# EAGLE library part PTN78020* (library @Club_convertisseurs_CC_CC)
Texas Instruments PTN78020W / PTH78020H Vin : 7V to 36V (W) / 15V to 36V (H) Vout : 2.5V to 12.6V (W) / 11.85V to 22V (H) Imax : 6A
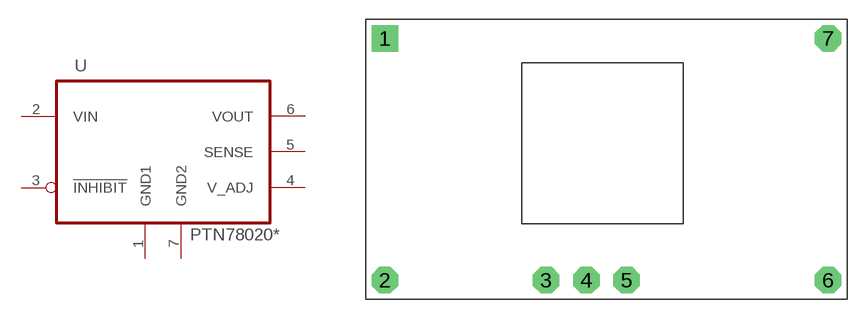
[diagram p2: symbol with the pads of R-PDSS-T7; footprint R-PDSS-T7]

Designator prefix U

## PTN78020  [R-PDSS-T7]
1  GND1  pwr
2  VIN  pwr
3  !INHIBIT  in
4  V_ADJ  in
5  SENSE  in
6  VOUT  out
7  GND2  pwr

## Footprint R-PDSS-T7 (pad centres in mm)
R-PDSS-T7 TI through-hole 7-pins DC/DC converter module footprint
drill 1.4 square: 1 -15.875,9.525
drill 1.4 octagon: 2 -15.875,-9.525; 3 -3.175,-9.525; 4 0,-9.525; 5 3.175,-9.525; 6 19.05,-9.525; 7 19.05,9.525